# Altium footprint library Sumo Footprints.PcbLib: 29 footprints (part 1 of 2)
Each footprint in its own frame and in the unit in brackets; x right, y up, seen from the top. Pads: shape width x height; smd on the part's side, far side on the other; paste and mask are expansions set on the pad; w line width, h text height; cw(c..) or ccw(c..) is an arc to the next point about the centre after c.
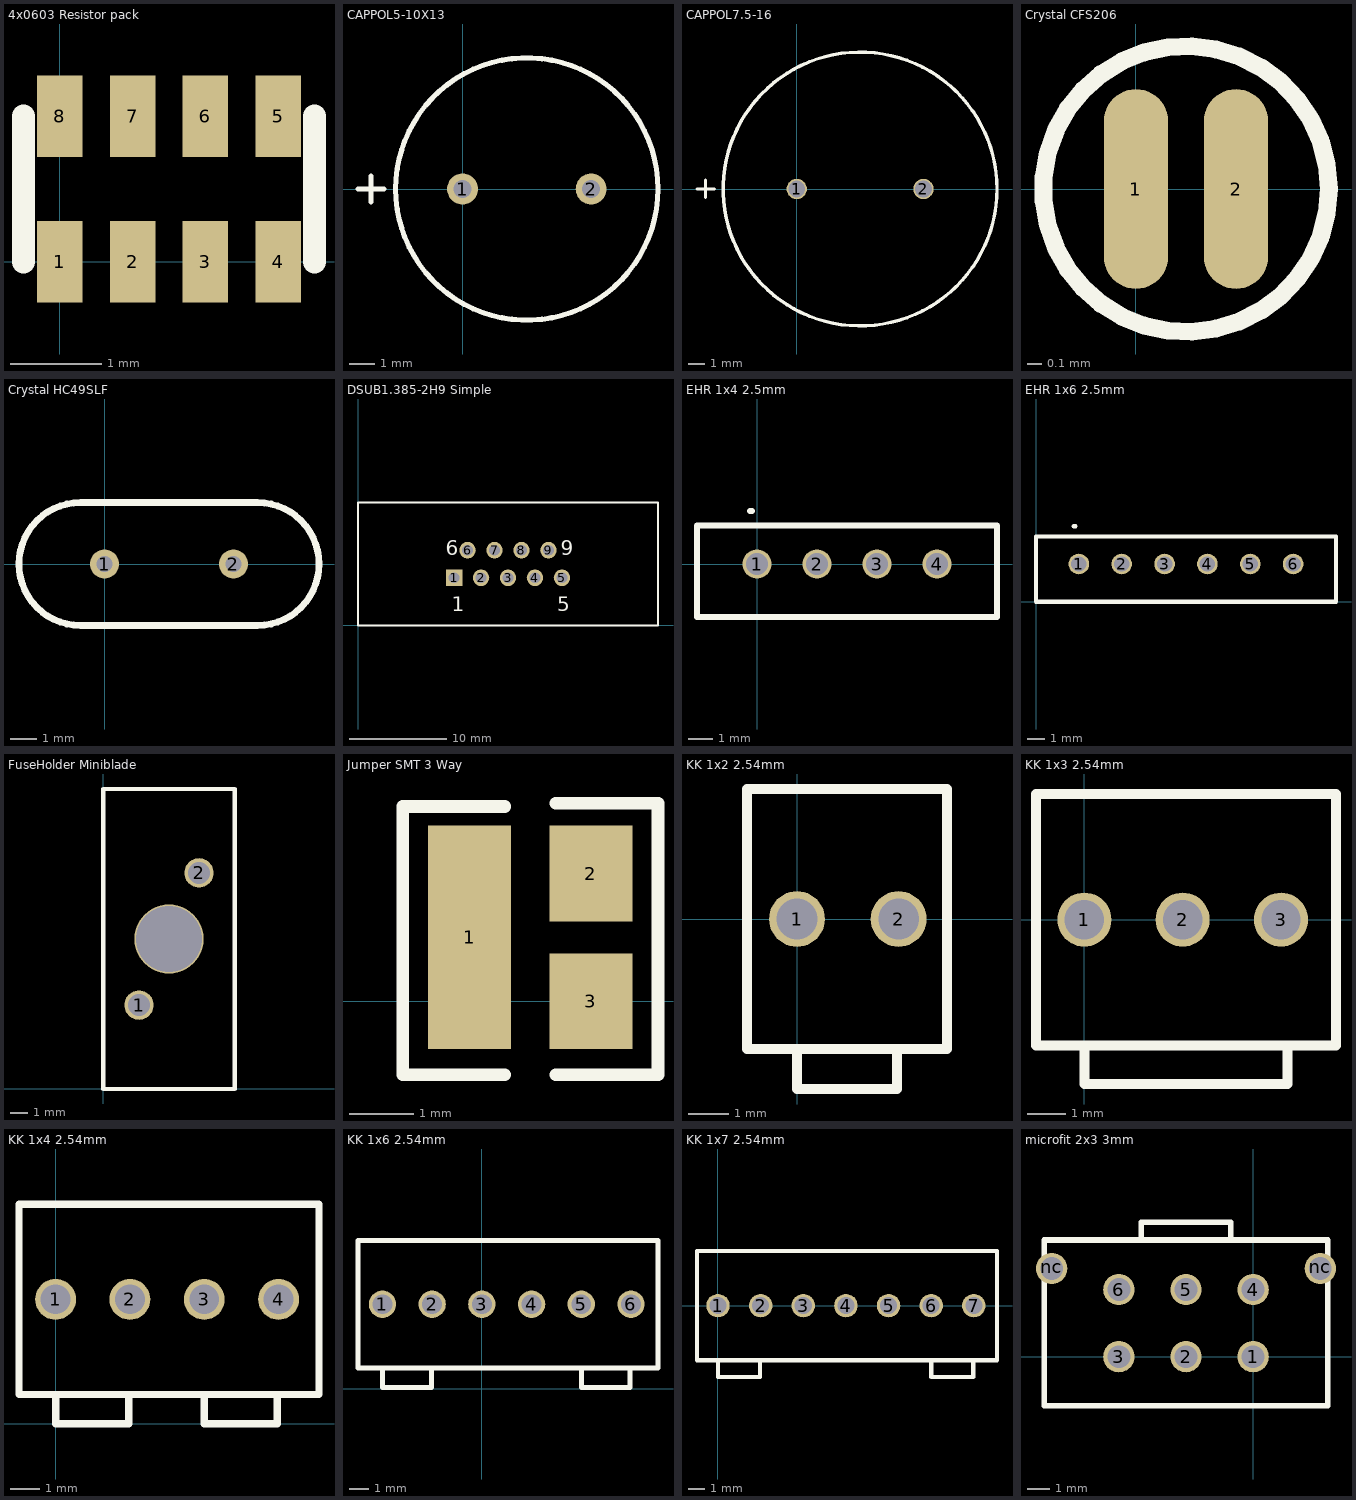
[diagram p0: the footprints below, top view; thin cyan lines are the x and y axes]

## 4x0603 Resistor pack [mm] "4x0603 Resistor pack 3.2 x 1.6mm, 0.8mm Pitch"
pads (8):
  rect 0.5x0.9 smd: 1(0,0) 2(0.8,0) 3(1.6,0) 4(2.4,0) 5(2.4,1.6) 6(1.6,1.6) 7(0.8,1.6) 8(0,1.6)
Top Overlay:
  lines w0.254: -0.4,0 -0.4,1.6 ; 2.8,0 2.8,1.6

## CAPPOL5-10X13 [mm]
pads (2):
  round 1.2 hole 0.7: 1(0,0) 2(5,0)
Top Overlay:
  circle w0.2: c2.5,0 r5.1
  lines w0.2: -4.064,0 -3.048,0 ; -3.556,-0.508 -3.556,0.508

## CAPPOL7.5-16 [mm] "7.5P, 16D, 0.8PD"
pads (2):
  round 1.2 hole 1: 1(0,0) 2(7.5,0)
Top Overlay:
  circle w0.2: c3.75,0 r8.1
  lines w0.2: -5.9,0 -4.884,0 ; -5.4,-0.5 -5.4,0.516

## Crystal CFS206 [mm] "Crystal CFS206 0.7mm pitch 0.2mm lead"
pads (2):
  oval 0.45x1.4 smd: 1(0,0) 2(0.7,0)
Top Overlay:
  circle w0.125: c0.35,0 r1

## Crystal HC49SLF [mm] "HC49SLF TH 4.88mm Pitch, 0.43mm lead"
pads (2):
  round 1.1 on Top hole 0.6: 1(0,0) 2(4.88,0)
Top Overlay:
  lines w0.254: -0.91,-2.325 cw(c-0.91,0) -0.91,2.325 5.79,2.325 cw(c5.79,0) 5.79,-2.325 -0.91,-2.325

## DSUB1.385-2H9 Simple [mm]
pads (9):
  rect 1.69x1.69 hole 1.09: 1(9.86,4.88)
  round 1.69 hole 1.09: 2(12.63,4.88) 3(15.4,4.88) 4(18.17,4.88) 5(20.94,4.88) 6(11.245,7.72) 7(14.015,7.72) 8(16.785,7.72) 9(19.555,7.72)
Top Overlay:
  lines w0.2: 0,0 30.8,0 30.8,12.6 0,12.6 0,0
  text "1" at 9.61,1.425 h1.5
  text "5" at 20.44,1.425 h1.5
  text "9" at 20.8,7.2 h1.5
  text "6" at 9,7.2 h1.5

## EHR 1x4 2.5mm [mm] "JST EHR 1x4 2.5mm 3A"
pads (4):
  round 1.2 on Top hole 0.9: 1(0,0) 2(2.5,0) 3(5,0) 4(7.5,0)
Top Overlay:
  lines w0.254: -0.3,2.2 -0.2,2.2 ; -2.5,-2.2 10,-2.2 10,1.6 -2.5,1.6 -2.5,-2.2

## EHR 1x6 2.5mm [mm] "JST EHR 1x6 2.5mm 3A"
pads (6):
  round 1.2 on Top hole 0.9: 1(2.5,2.2) 2(5,2.2) 3(7.5,2.2) 4(10,2.2) 5(12.5,2.2) 6(15,2.2)
Top Overlay:
  lines w0.254: 2.2,4.4 2.3,4.4 ; 0,0 17.5,0 17.5,3.8 0,3.8 0,0

## FuseHolder Miniblade [mm] "FuseHolder Miniblade"
pads (3):
  round 1.7 on Top hole 1.27: 1(2.07,4.84) 2(5.53,12.46)
  round 4 on Top hole 3.8: ""(3.8,8.65)
Top Overlay:
  lines w0.254: 0,0 0,17.3 7.6,17.3 7.6,0 0,0

## Jumper SMT 3 Way [mm]
pads (3):
  rect 1.3x3.5 smd: 1(-3.45,1)
  rect 1.3x1.5 smd: 2(-1.55,2) 3(-1.55,0)
Top Overlay:
  lines w0.2: -2.9,-1.15 -4.5,-1.15 -4.5,3.05 -2.9,3.05 ; -2.1,-1.15 -0.5,-1.15 -0.5,3.1 -2.1,3.1

## KK 1x2 2.54mm [mil] "KK 1x2 2.54mm 4A"
pads (2):
  round 55 on Top hole 40: 1(0,0) 2(100,0)
Top Overlay:
  lines w10: 0,-127.95 0,-167.32 98.43,-167.32 98.43,-127.95 ; -49.21,-127.95 -49.21,127.95 147.64,127.95 147.64,-127.95 -49.21,-127.95

## KK 1x3 2.54mm [mil] "KK 1x3 2.54mm 4A"
pads (3):
  round 55 on Top hole 40: 1(0,0) 2(100,0) 3(200,0)
Top Overlay:
  lines w10: 0,-127.95 0,-167.32 206.69,-167.32 206.69,-127.95 ; -49.21,-127.95 255.91,-127.95 255.91,127.95 -49.21,127.95 -49.21,-127.95

## KK 1x4 2.54mm [mil] "KK 1x4 2.54mm 4A"
pads (4):
  round 55 on Top hole 40: 1(0,167.32) 2(100,167.32) 3(200,167.32) 4(300,167.32)
Top Overlay:
  lines w10: 0,39.37 0,0 98.43,0 98.43,39.37 ; 200,39.37 200,0 298.43,0 298.43,39.37 ; -49.21,39.37 -49.21,295.28 354.33,295.28 354.33,39.37 -49.21,39.37

## KK 1x6 2.54mm [mil] "KK 1x6 2.54mm 4A"
pads (6):
  round 55 on Top hole 40: 1(-200,170) 2(-100,170) 3(0,170) 4(100,170) 5(200,170) 6(300,170)
Top Overlay:
  lines w10: -200,42.05 -200,2.68 -101.57,2.68 -101.57,42.05 ; 200,42.05 200,2.68 298.43,2.68 298.43,42.05 ; -249.21,42.05 354.33,42.05 354.33,297.95 -249.21,297.95 -249.21,42.05

## KK 1x7 2.54mm [mil] "Molex KK 1x7 2.54mm 4A"
pads (7):
  round 55 on Top hole 40: 1(0,0) 2(100,0) 3(200,0) 4(300,0) 5(400,0) 6(500,0) 7(600,0)
Top Overlay:
  lines w10: 0,-127.95 0,-167.32 98.43,-167.32 98.43,-127.95 ; 500,-127.95 500,-167.32 598.43,-167.32 598.43,-127.95 ; -49.21,-127.95 654.33,-127.95 654.33,127.95 -49.21,127.95 -49.21,-127.95

## microfit 2x3 3mm [mm] "microfit 2x3 3mm 5A"
pads (8):
  round 1.4 on Top hole 1.02: 1(0,0) 2(-3,0) 3(-6,0) 4(0,3) 5(-3,3) 6(-6,3) nc(-9,3.94) nc(3,3.94)
Top Overlay:
  lines w0.254: -5,5.215 -5,6 -1,6 -1,5.215 ; -9.325,-2.185 -9.325,5.215 3.325,5.215 3.325,-2.185 -9.325,-2.185